# Altium schematic symbol library SCH - POWER - LINEAR VREG - TI TLE4275-Q1_KTT_5.SchLib: 1 symbol
Pins are listed as number, name and electrical type; pins without a type are passive.

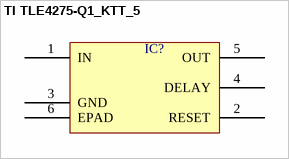
[diagram p0: symbol TI TLE4275-Q1_KTT_5]

## TI TLE4275-Q1_KTT_5
designator IC?  (value not drawn)
pins: 1 IN, 2 RESET, 3 GND, 4 DELAY, 5 OUT, 6 EPAD